# Altium footprint library PHOENIX_MKDS_5.08MM_2x1.PcbLib: 1 footprints
Each footprint in its own frame and in the unit in brackets; x right, y up, seen from the top. Pads: shape width x height; smd on the part's side, far side on the other; paste and mask are expansions set on the pad; w line width, h text height; cw(c..) or ccw(c..) is an arc to the next point about the centre after c.
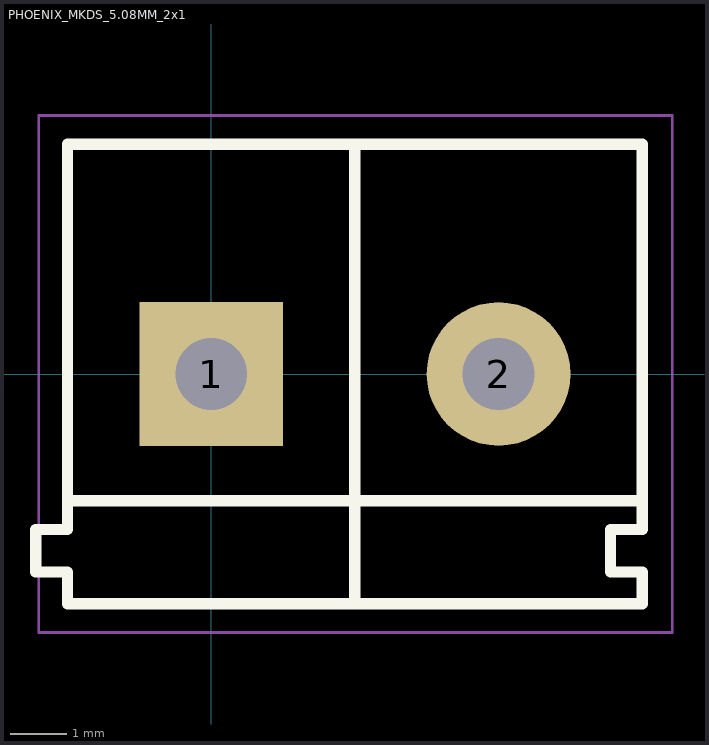
[diagram p0: the footprint, top view; thin cyan lines are the x and y axes]

## PHOENIX_MKDS_5.08MM_2x1 [mil]
pads (2):
  rect 100x100 hole 50: 1(0,0)
  round 100 hole 50: 2(200,0)
Top Overlay:
  lines w7.87: -100,-88.19 300,-88.19 ; 100,-160 100,160 ; -122.05,-137.8 -100,-137.8 -100,-160 300,-160 300,-137.8 277.95,-137.8 277.95,-108.27 300,-108.27 300,160 -100,160 -100,-108.27 -122.05,-108.27 -122.05,-137.8
Mechanical 15:
  lines w1.97: -120,-180 -120,180 320.87,180 320.87,-180 -120,-180
3D body "PHOENIX_MKDSN_5-08_2x1.stp": height 393.7, standoff -137.8, extent -122.64,-159.45 299.8,159.45